# EAGLE library part SN65LVD*33 (library NewSDR)
Quad High Speed Differential Receiver
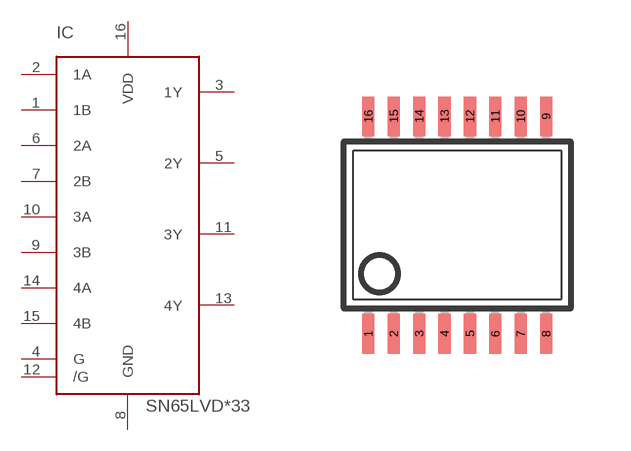
[diagram p48: symbol with the pads of TSSOP16; footprint TSSOP16]

Designator prefix IC

## SN65LVDT33  [TSSOP16]
1  1B  in
2  1A  in
3  1Y  out
4  G  in
5  2Y  out
6  2A  in
7  2B  in
8  GND  pwr
9  3B  in
10  3A  in
11  3Y  out
12  /G  in
13  4Y  out
14  4A  in
15  4B  in
16  VDD  pwr

## Footprint TSSOP16 (pad centres in mm)
TSSOP 16 Pin
smd 0.305 x 0.991: 1 -1.905,-2.718; 2 -1.27,-2.718; 3 -0.635,-2.718; 4 0,-2.718; 5 0.635,-2.718; 6 1.27,-2.718; 7 1.905,-2.718; 8 2.54,-2.718; 9 2.54,2.718; 10 1.905,2.718; 11 1.27,2.718; 12 0.635,2.718; 13 0,2.718; 14 -0.635,2.718; 15 -1.27,2.718; 16 -1.905,2.718